# EAGLE library part 0532610871 (library con-molex)
CONN HEADER 8POS 1.25MM R/A SMD
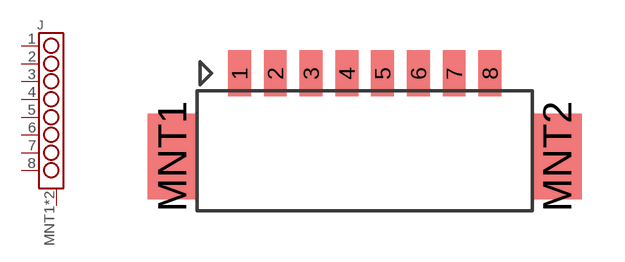
[diagram p5: symbol with the pads of 0532610871; footprint 0532610871]

Designator prefix J

## 0532610871 (DIGIKEY: WM7626CT-ND; MFR: Molex; MPN: 0532610871)  [0532610871]
1  1
2  2
3  3
4  4
5  5
6  6
7  7
8  8
MNT1  MNT
MNT2  MNT

## Footprint 0532610871 (pad centres in mm)
smd 0.8 x 1.6: 1 -4.375,2.5; 2 -3.125,2.5; 3 -1.875,2.5; 4 -0.625,2.5; 5 0.625,2.5; 6 1.875,2.5; 7 3.125,2.5; 8 4.375,2.5
smd 1.7 x 3: MNT1 -6.725,-0.4; MNT2 6.725,-0.4